# Altium schematic symbol library PTN09S2-H10120K1A.SchLib: 1 symbol
Pins are listed as number, name and electrical type; pins without a type are passive.

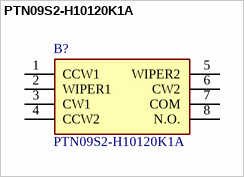
[diagram p0: symbol PTN09S2-H10120K1A]

## PTN09S2-H10120K1A
designator B?
9.5 mm, Horizontal, Dual Section, Logarithmic, 10K, Through Hole, Knurled Shaft Rotary Potentiometer; Manufacturer_Name: Same Sky; Geometry.Height: 10.66mm; Mouser Part Number: *; Mouser Price/Stock: *; Manufacturer_Part_Number: PTN09S2-H10120K1A; Datasheet Link: https://www.sameskydevices.com/product/resource/ptn09sx.pdf
footprint PTN09S2H10120K1A
pins: 1 CCW1, 2 WIPER1, 3 CW1, 4 CCW2, 5 WIPER2, 6 CW2, 7 COM, 8 N.O.